# EAGLE library part MMA8453QT (library Strutz Electronic Industries)
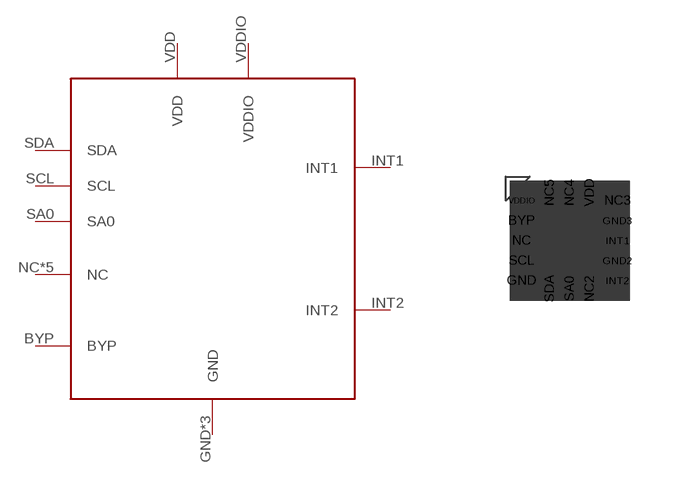
[diagram p4: symbol with the pads of MMA8453QT; footprint MMA8453QT]

Designator prefix -

## MMA8453QTQFN-16  [MMA8453QT]
BYP  BYP
GND  GND
GND2  GND
GND3  GND
INT1  INT1
INT2  INT2
NC  NC
NC2  NC
NC3  NC
NC4  NC
NC5  NC
SA0  SA0
SCL  SCL
SDA  SDA
VDD  VDD
VDDIO  VDDIO

## Footprint MMA8453QT (pad centres in mm)
smd 0.567 x 0.337: BYP -1.2,0.5; GND -1.2,-1; GND2 1.2,-0.5; GND3 1.2,0.5; INT1 1.2,0; INT2 1.2,-1; NC -1.2,0; NC3 1.2,1; SCL -1.2,-0.5; VDDIO -1.2,1
smd 0.337 x 0.567: NC2 0.5,-1.2; NC4 0,1.2; NC5 -0.5,1.2; SA0 0,-1.2; SDA -0.5,-1.2; VDD 0.5,1.2